# EAGLE library part 5103308-5 (library SamacSys_Parts)
20 Way HE10 Str PCB Header Plug TE Connectivity AMP-LATCH Series, 2.54mm Pitch 20 Way 2 Row Shrouded Straight PCB Header, Through Hole Source: Datasheet <https://componentsearchengine.com/Datasheets/1/5103308-5.pdf>
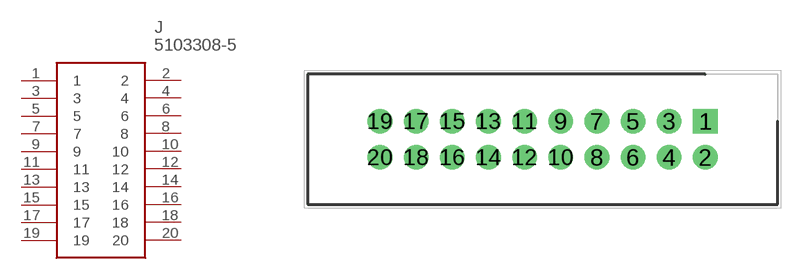
[diagram p1: symbol with the pads of SHDR20W66P254_2X10_3302X914X98; footprint SHDR20W66P254_2X10_3302X914X98]

Designator prefix J

## 5103308-5 (Description: 20 Way HE10 Str PCB Header Plug TE Connectivity AMP-LATCH Series, 2.54mm Pitch 20 Way 2 Row Shrouded Straight PCB Header, Through Hole; Height: 9.855mm; Manufacturer_Name: TE Connectivity; Manufacturer_Part_Number: 5103308-5; Mouser_Part_Number: 571-5103308-5; Mouser_Price-Stock: https://www.mouser.co.uk/ProductDetail/TE-Connectivity/5103308-5?qs=84A%2FDAdkstIALbbUeUfP1g%3D%3D)  [SHDR20W66P254_2X10_3302X914X98]
1  1
2  2
3  3
4  4
5  5
6  6
7  7
8  8
9  9
10  10
11  11
12  12
13  13
14  14
15  15
16  16
17  17
18  18
19  19
20  20

## Footprint SHDR20W66P254_2X10_3302X914X98 (pad centres in mm)
5103308-5/
drill 1.15 pad 1.725 square: 1 0,0
drill 1.15 pad 1.725: 2 0,-2.54; 3 -2.54,0; 4 -2.54,-2.54; 5 -5.08,0; 6 -5.08,-2.54; 7 -7.62,0; 8 -7.62,-2.54; 9 -10.16,0; 10 -10.16,-2.54; 11 -12.7,0; 12 -12.7,-2.54; 13 -15.24,0; 14 -15.24,-2.54; 15 -17.78,0; 16 -17.78,-2.54; 17 -20.32,0; 18 -20.32,-2.54; 19 -22.86,0; 20 -22.86,-2.54